# Altium footprint library CMod5_1.PcbLib: 117 footprints (part 6 of 8)
Each footprint in its own frame and in the unit in brackets; x right, y up, seen from the top. Pads: shape width x height; smd on the part's side, far side on the other; paste and mask are expansions set on the pad; w line width, h text height; cw(c..) or ccw(c..) is an arc to the next point about the centre after c.
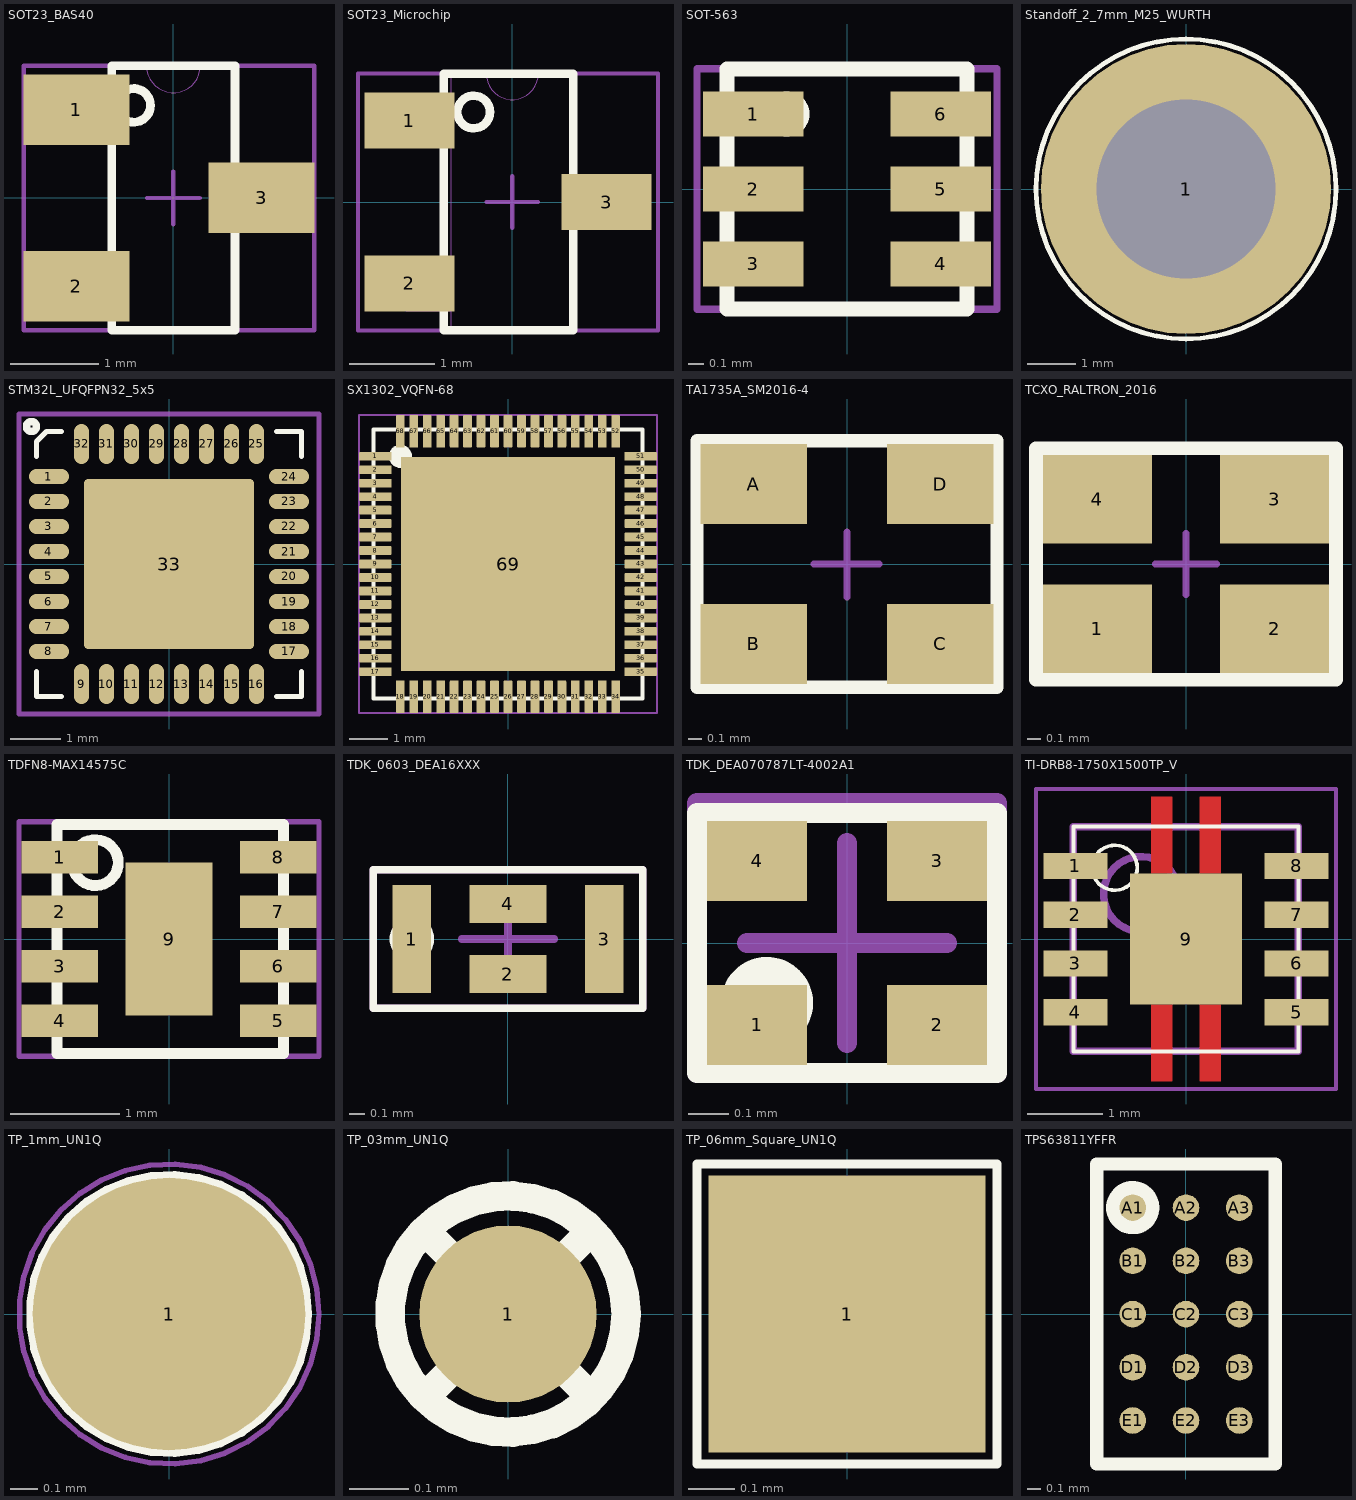
[diagram p5: the footprints below, top view; thin cyan lines are the x and y axes]

## SOT23_BAS40 [mm] "SOT-23, 3 pins, 2.5 x 2.9 x 1.1mm for BAS40"
height 1.1
pads (3):
  rect 1.2x0.8 smd: 1(-1.1,1) 2(-1.1,-1) 3(1,0)
Top Overlay:
  circle w0.1: c-0.45,1.05 r0.19
  lines w0.1: -0.7,-1.5 0.7,-1.5 0.7,1.5 -0.7,1.5 -0.7,-1.5
Mechanical 4:
  lines w0: -0.305,1.499 ccw(c0,1.499) 0.305,1.499 ; -1.245,-1.27 -1.245,-0.762 -0.711,-0.762 -0.711,-1.27 -1.245,-1.27 ; -1.245,0.762 -1.245,1.27 -0.711,1.27 -0.711,0.762 -1.245,0.762 ; -0.711,-1.499 -0.711,1.499 0.711,1.499 0.711,-1.499 -0.711,-1.499 ; 0.711,-0.254 0.711,0.254 1.245,0.254 1.245,-0.254 0.711,-0.254
Top Courtyard:
  lines w0.05: -0.3,0 0.3,0 ; 0,-0.3 0,0.3 ; -1.7,-1.499 1.6,-1.499 1.6,1.499 -1.7,1.499 -1.7,-1.499
Top Designator:
3D body "BAV99_SOT-23_J.stp": height 1, standoff -0.03, extent -1.242,-1.475 1.242,1.475
3D body: height 1.01, standoff 0.92, extent -0.55,0.9 -0.25,1.2

## SOT23_Microchip [mm] "SOT-23, 3 pins, 2.5 x 2.9 x 1.1mm for"
height 1.1
pads (3):
  rect 1.05x0.65 smd paste+0 mask+0.05: 1(-1.2,0.95) 2(-1.2,-0.95) 3(1.1,0)
Top Overlay:
  circle w0.1: c-0.45,1.05 r0.19
  lines w0.1: -0.8,-1.499 -0.8,1.499 0.711,1.499 0.711,-1.499 -0.8,-1.499
Top 3D Body:
  lines w0: -0.305,1.499 ccw(c0,1.499) 0.305,1.499 ; -1.245,-1.27 -1.245,-0.762 -0.711,-0.762 -0.711,-1.27 -1.245,-1.27 ; -1.245,0.762 -1.245,1.27 -0.711,1.27 -0.711,0.762 -1.245,0.762 ; -0.711,-1.499 0.711,-1.499 0.711,1.499 -0.711,1.499 -0.711,-1.499 ; 0.711,-0.254 0.711,0.254 1.245,0.254 1.245,-0.254 0.711,-0.254
Top Courtyard:
  lines w0.05: -0.3,0 0.3,0 ; 0,-0.3 0,0.3 ; -1.8,-1.5 -1.8,1.499 1.7,1.499 1.7,-1.5 -1.8,-1.5
Top Designator:
3D body "step_temp.STEP": height 1.15, standoff 0, extent -1.2,-1.45 1.2,1.45

## SOT-563 [mm] "SOT-563, SOT-666, EMT6"
height 0.5
pads (6):
  rect 0.67x0.3 smd paste+0 mask+0.05: 1(-0.625,0.5) 2(-0.625,0) 3(-0.625,-0.5) 4(0.625,-0.5) 5(0.625,0) 6(0.625,0.5)
Top Overlay:
  circle w0.15: c-0.4,0.5 r0.075
  lines w0.1: -0.8,-0.8 -0.8,0.8 0.8,0.8 0.8,-0.8 -0.8,-0.8
Top Courtyard:
  lines w0.05: -1,-0.8 -1,0.8 1,0.8 1,-0.8 -1,-0.8
Top Designator:
3D body: height 0.51, standoff 0.5, extent -0.5,0.4 -0.3,0.6
3D body "EM6M2T2R.stp": height 0.55, standoff 0, extent -0.8,-0.8 0.8,0.8

## Standoff_2_7mm_M25_WURTH [mm] "Standoff 2.7 mm M2.5  Hole 3.7 mm"
height 2.7
pads (1):
  round 6 / inner round 4 / far side round 4 hole 3.7 paste-2539.97 mask+0.1: 1(0,0)
Top Overlay:
  circle w0.1: c0,0 r3.1
Top Paste:
  lines w1.2: -0.846,-2.325 cw(c0,0) -0.846,2.325 ; 0.846,-2.325 ccw(c0,0) 0.846,2.325
Top Courtyard:
  circle w0.05: c0,0 r3.1
  lines w0.05: -1,0 1,0 ; 0,-1 0,1
3D body "9774027151R_rev1.stp": height 2.75, standoff -1.35, extent -2.55,-2.547 2.55,2.547

## STM32L_UFQFPN32_5x5 [mm]
height 0.6
pads (33):
  oval 0.8x0.3 smd mask+0.05: 1(-2.4,1.75) 2(-2.4,1.25) 3(-2.4,0.75) 4(-2.4,0.25) 5(-2.4,-0.25) 6(-2.4,-0.75) 7(-2.4,-1.25) 8(-2.4,-1.75) 17(2.4,-1.75) 18(2.4,-1.25) 19(2.4,-0.75) 20(2.4,-0.25) 21(2.4,0.25) 22(2.4,0.75) 23(2.4,1.25) 24(2.4,1.75)
  oval 0.3x0.8 smd mask+0.05: 9(-1.75,-2.4) 10(-1.25,-2.4) 11(-0.75,-2.4) 12(-0.25,-2.4) 13(0.25,-2.4) 14(0.75,-2.4) 15(1.25,-2.4) 16(1.75,-2.4) 25(1.75,2.4) 26(1.25,2.4) 27(0.75,2.4) 28(0.25,2.4) 29(-0.25,2.4) 30(-0.75,2.4) 31(-1.25,2.4) 32(-1.75,2.4)
  rrect5% 3.4x3.4 smd paste-3.2 mask+0.05: 33(0,0)
Top Overlay:
  circle w0.15: c-2.75,2.75 r0.1
  lines w0.1: -2.65,-2.15 -2.65,-2.65 -2.15,-2.65 ; -2.65,2.15 -2.65,2.45 -2.45,2.65 -2.15,2.65 ; 2.15,-2.65 2.65,-2.65 2.65,-2.15 ; 2.15,2.65 2.65,2.65 2.65,2.15
Top Paste:
  region: 0.1,1.55 1.55,1.55 1.55,0.1 0.1,0.1
  region: 0.1,-0.1 1.55,-0.1 1.55,-1.55 0.1,-1.55
  region: -0.1,-0.1 -0.1,-1.55 -1.55,-1.55 -1.55,-0.1
  region: -1.55,1.55 -1.55,0.1 -0.1,0.1 -0.1,1.55
Top Courtyard:
  lines w0.1: -3,-3 3,-3 3,3 -3,3 -3,-3
3D body: height 1, standoff 0.05, extent -2.5,-2.5 2.5,2.5

## SX1302_VQFN-68 [mm] "SX1302 - LoRa Base Band Processor, 7 mm x 7 mm x 0.75 mm"
height 0.8
pads (69):
  rrect25% 0.85x0.23 smd paste+0 mask+0.025: 1(-3.45,2.8) 2(-3.45,2.45) 3(-3.45,2.1) 4(-3.45,1.75) 5(-3.45,1.4) 6(-3.45,1.05) 7(-3.45,0.7) 8(-3.45,0.35) 9(-3.45,0) 10(-3.45,-0.35) 11(-3.45,-0.7) 12(-3.45,-1.05) 13(-3.45,-1.4) 14(-3.45,-1.75) 15(-3.45,-2.1) 16(-3.45,-2.45) 17(-3.45,-2.8) 35(3.45,-2.8) 36(3.45,-2.45) 37(3.45,-2.1) 38(3.45,-1.75) 39(3.45,-1.4) 40(3.45,-1.05) 41(3.45,-0.7) 42(3.45,-0.35) 43(3.45,0) 44(3.45,0.35) 45(3.45,0.7) 46(3.45,1.05) 47(3.45,1.4) 48(3.45,1.75) 49(3.45,2.1) 50(3.45,2.45) 51(3.45,2.8)
  rrect25% 0.23x0.85 smd paste+0 mask+0.025: 18(-2.8,-3.45) 19(-2.45,-3.45) 20(-2.1,-3.45) 21(-1.75,-3.45) 22(-1.4,-3.45) 23(-1.05,-3.45) 24(-0.7,-3.45) 25(-0.35,-3.45) 26(0,-3.45) 27(0.35,-3.45) 28(0.7,-3.45) 29(1.05,-3.45) 30(1.4,-3.45) 31(1.75,-3.45) 32(2.1,-3.45) 33(2.45,-3.45) 34(2.8,-3.45) 52(2.8,3.45) 53(2.45,3.45) 54(2.1,3.45) 55(1.75,3.45) 56(1.4,3.45) 57(1.05,3.45) 58(0.7,3.45) 59(0.35,3.45) 60(0,3.45) 61(-0.35,3.45) 62(-0.7,3.45) 63(-1.05,3.45) 64(-1.4,3.45) 65(-1.75,3.45) 66(-2.1,3.45) 67(-2.45,3.45) 68(-2.8,3.45)
  rect 5.56x5.56 smd paste-7 mask+0.05: 69(0,0)
Top Overlay:
  circle w0.3: c-2.8,2.8 r0.15
  lines w0.1: -3.5,-3.5 3.5,-3.5 3.5,3.5 -3.5,3.5 -3.5,-3.5
Top Paste:
  region: -2.5,-1.4 -2.5,-2.5 -1.4,-2.5 -1.4,-1.4
  region: -2.5,-0.1 -2.5,-1.2 -1.4,-1.2 -1.4,-0.1
  region: -2.5,1.2 -2.5,0.1 -1.4,0.1 -1.4,1.2
  region: -2.5,2.5 -2.5,1.4 -1.4,1.4 -1.4,2.5
  region: 1.4,2.5 1.4,1.4 2.5,1.4 2.5,2.5
  region: 1.4,1.2 1.4,0.1 2.5,0.1 2.5,1.2
  region: 1.4,-0.1 1.4,-1.2 2.5,-1.2 2.5,-0.1
  region: 1.4,-1.4 1.4,-2.5 2.5,-2.5 2.5,-1.4
  region: 0.1,2.5 0.1,1.4 1.2,1.4 1.2,2.5
  region: 0.1,1.2 0.1,0.1 1.2,0.1 1.2,1.2
  region: 0.1,-0.1 0.1,-1.2 1.2,-1.2 1.2,-0.1
  region: 0.1,-1.4 0.1,-2.5 1.2,-2.5 1.2,-1.4
  region: -1.2,2.5 -1.2,1.4 -0.1,1.4 -0.1,2.5
  region: -1.2,1.2 -1.2,0.1 -0.1,0.1 -0.1,1.2
  region: -1.2,-0.1 -1.2,-1.2 -0.1,-1.2 -0.1,-0.1
  region: -1.2,-1.4 -1.2,-2.5 -0.1,-2.5 -0.1,-1.4
Top Solder:
  region: 2.94,3 2.94,3.9 -2.94,3.9 -2.94,3
  region: 2.94,-3.9 2.94,-3 -2.94,-3 -2.94,-3.9
  region: 3,-2.94 3.9,-2.94 3.9,2.94 3,2.94
  region: -3.9,-2.94 -3,-2.94 -3,2.94 -3.9,2.94
Top Courtyard:
  lines w0.05: -3.875,-3.875 3.875,-3.875 3.875,3.875 -3.875,3.875 -3.875,-3.875
3D body: height 0.91, standoff 0.8, extent -3.1,2.5 -2.5,3.1
3D body: height 0.9, standoff 0.05, extent -3.5,-3.5 3.5,3.5

## TA1735A_SM2016-4 [mm] "SM2016-4, 1.6 x 2 4 pin"
height 0.9
pads (4):
  rect 0.8x0.6 smd paste+0 mask+0.05: A(-0.7,0.6) B(-0.7,-0.6) C(0.7,-0.6) D(0.7,0.6)
Top Overlay:
  circle w0.2: c-0.85,-0.65 r0.1
  lines w0.1: -1.125,-0.925 1.125,-0.925 1.125,0.925 -1.125,0.925 -1.125,-0.925
Top Courtyard:
  lines w0.05: -0.25,0 0.243,0 ; 0,-0.25 0,0.24 ; -1.125,-0.925 1.125,-0.925 1.125,0.925 -1.125,0.925 -1.125,-0.925
3D body: height 0.76, standoff 0.7, extent -0.9,-0.7 -0.6,-0.4
3D body: height 0.9, standoff 0, extent -1.05,-0.85 1.05,0.85

## TCXO_RALTRON_2016 [mm]
height 0.8
pads (4):
  rect 0.8x0.65 smd paste+0 mask+0.05: 1(-0.65,-0.475) 2(0.65,-0.475) 3(0.65,0.475) 4(-0.65,0.475)
Top Overlay:
  circle w0.1: c-0.75,-0.5 r0.2
  lines w0.1: -1.1,-0.85 1.1,-0.85 1.1,0.85 -1.1,0.85 -1.1,-0.85
Top Courtyard:
  lines w0.05: -0.225,0 0.225,0 ; 0,-0.225 0,0.225 ; -1.1,-0.85 1.1,-0.85 1.1,0.85 -1.1,0.85 -1.1,-0.85
3D body: height 0.8, standoff 0, extent -1.05,-0.85 1.05,0.85
3D body: height 0.81, standoff 0.7, extent -0.6,-0.4 -0.3,-0.1

## TDFN8-MAX14575C [mm] "TDFN8 for MAX14575C, 2.05mm(L) x 2.05mm(W) x 0.80mm(H)"
height 0.8
pads (9):
  rect 0.7x0.3 smd paste+0 mask+0.05: 1(-1,0.75) 2(-1,0.25) 3(-1,-0.25) 4(-1,-0.75) 5(1,-0.75) 6(1,-0.25) 7(1,0.25) 8(1,0.75)
  rect 0.8x1.4 smd paste+0 mask+0.05: 9(0,0)
Top Overlay:
  circle w0.1: c-0.675,0.7 r0.21
  lines w0.1: -1.025,-1.05 -1.025,1.05 1.05,1.05 1.05,-1.05 -1.025,-1.05
Top Courtyard:
  lines w0.05: -0.3,0 0.25,0 ; -0.025,-0.275 -0.025,0.275 ; -1.375,-1.075 -1.375,1.075 1.375,1.075 1.375,-1.075 -1.375,-1.075
3D body: height 0.79, standoff 0.7, extent -0.925,0.6 -0.625,0.9
3D body "MAX14575CETA+T.stp": height 0.8, standoff 0, extent -1.05,-1 1.05,1

## TDK_0603_DEA16XXX [mm] "TDK 0603 DEA16XXX 3 or 4 pin filters"
height 0.6
pads (4):
  rect 0.25x0.7 smd mask+0.05: 1(-0.625,0) 3(0.625,0)
  rect 0.5x0.245 smd mask+0.05: 2(0,-0.228) 4(0,0.228)
Top Overlay:
  circle w0.15: c-0.625,0 r0.07
  lines w0.05: -0.875,-0.45 -0.875,0.45 0.875,0.45 0.875,-0.45 -0.875,-0.45
Top Courtyard:
  lines w0.05: -0.3,0 0.3,0 ; 0,-0.3 0,0.3 ; -0.875,-0.45 -0.875,0.45 0.875,0.45 0.875,-0.45 -0.875,-0.45
Top Designator:
3D body: height 0.71, standoff 0.6, extent -0.75,-0.175 -0.4,0.175
3D body: height 0.7, standoff 0, extent -0.9,-0.475 0.9,0.475

## TDK_DEA070787LT-4002A1 [mm] "TDK DEA070787LT-4002A1"
height 0.3
pads (4):
  rect 0.25x0.2 smd paste+0 mask+0.05: 1(-0.225,-0.205) 2(0.225,-0.205) 3(0.225,0.205) 4(-0.225,0.205)
Top Overlay:
  circle w0.15: c-0.2,-0.15 r0.04
  lines w0.05: -0.375,-0.325 -0.375,0.325 0.375,0.325 0.375,-0.325 -0.375,-0.325
Top Courtyard:
  lines w0.05: -0.25,0 0.25,0 ; 0,-0.25 0,0.25 ; -0.375,-0.325 -0.375,0.35 0.375,0.35 0.375,-0.325 -0.375,-0.325
3D body: height 0.3, standoff 0, extent -0.35,-0.275 0.35,0.275
3D body: height 0.31, standoff 0, extent -0.3,-0.225 -0.1,-0.025

## TI-DRB8-1750X1500TP_V [mm] "SON, 8-Leads, Body 3x3mm, Pitch 0.65mm, Thermal Pad 1.50 x 3.8mm"
height 1
pads (9):
  rect 0.85x0.35 smd: 1(-1.475,0.975) 2(-1.475,0.325) 3(-1.475,-0.325) 4(-1.475,-0.975) 5(1.475,-0.975) 6(1.475,-0.325) 7(1.475,0.325) 8(1.475,0.975)
  rect 1.5x1.75 smd: 9(0,0)
Top Layer:
  region: 0.185,0.875 0.185,1.9 0.465,1.9 0.465,0.875
  region: -0.185,-0.875 -0.185,-1.9 -0.465,-1.9 -0.465,-0.875
  region: 0.185,-0.875 0.185,-1.9 0.465,-1.9 0.465,-0.875
  region: -0.185,0.875 -0.185,1.9 -0.465,1.9 -0.465,0.875
Top Overlay:
  circle w0.05: c-0.95,0.95 r0.3
  lines w0.05: -1.5,-1.5 1.5,-1.5 1.5,1.5 -1.5,1.5 -1.5,-1.5
Top Paste:
  region: -0.185,0.875 -0.185,1.9 -0.465,1.9 -0.465,0.875
  region: 0.185,-0.875 0.185,-1.9 0.465,-1.9 0.465,-0.875
  region: -0.185,-0.875 -0.185,-1.9 -0.465,-1.9 -0.465,-0.875
  region: 0.185,0.875 0.185,1.9 0.465,1.9 0.465,0.875
Top 3D Body:
  circle w0.1: c-0.6,0.6 r0.5
  lines w0.1: -1.5,-1.5 -1.5,1.5 1.5,1.5 1.5,-1.5 -1.5,-1.5
Top Courtyard:
  lines w0.05: -2,-2 2,-2 2,-1.675 2,1.675 2,2 -2,2 -2,1.675 -2,-1.675 -2,-2
  lines w0.1: -0.5,0 0.5,0 ; 0,-0.5 0,0.5
3D body: height 1, standoff 0, extent -1.5,-1.5 1.5,1.5

## TP_1mm_UN1Q [mm] "Test Point, Circular, 1.0 mm"
height 0.03
pads (1):
  round 1 smd paste-1 mask+0.06: 1(0,0)
Top Overlay:
  circle w0.05: c0,0 r0.5
  lines w0.05: -0.35,-0.35 0,0 0.35,0.35 ; -0.35,0.35 0.35,-0.35
Top Courtyard:
  circle w0.02: c0,0 r0.55
3D body: height 0.02, standoff 0, extent -0.496,-0.499 0.5,0.499

## TP_03mm_UN1Q [mm] "Test Point 0.3 mm"
height 0.03
pads (1):
  round 0.3 smd paste-1 mask+0.06: 1(0,0)
Top Overlay:
  circle w0.05: c0,0 r0.2
  lines w0.05: -0.125,-0.125 0,0 0.125,0.125 ; -0.125,0.125 0.125,-0.125
Top Courtyard:
  circle w0.02: c0,0 r0.2
3D body: height 0.02, standoff 0, extent -0.15,-0.15 0.15,0.15

## TP_06mm_Square_UN1Q [mm] "Test Point, Square, 0.6mm"
height 0.02
pads (1):
  rect 0.6x0.6 smd paste-1 mask+0.05: 1(0,0)
Top Overlay:
  lines w0.02: -0.325,-0.325 0.325,-0.325 0.325,0.325 -0.325,0.325 -0.325,-0.325
3D body: height 0.02, standoff 0, extent -0.3,-0.3 0.3,0.3

## TPS63811YFFR [mm]
height 0.63
pads (15):
  round 0.2 smd: A1(-0.4,0.8) A2(0,0.8) A3(0.4,0.8) B1(-0.4,0.4) B2(0,0.4) B3(0.4,0.4) C1(-0.4,0) C2(0,0) C3(0.4,0) D1(-0.4,-0.4) D2(0,-0.4) D3(0.4,-0.4) E1(-0.4,-0.8) E2(0,-0.8) E3(0.4,-0.8)
Top Overlay:
  circle w0.2: c-0.4,0.8 r0.1
  lines w0.1: -0.672,-1.127 -0.672,1.128 0.672,1.128 0.672,-1.127 -0.672,-1.127
Top Courtyard:
  lines w0.05: -0.672,-1.127 0.672,-1.127 0.672,1.128 -0.672,1.128 -0.672,-1.127
3D body: height 0.6, standoff 0.5, extent -0.6,0.85 -0.4,1.05
3D body "TPS63811YFFR.stp": height 0.63, standoff 0, extent -0.672,-1.128 0.672,1.128